# EAGLE library part TPS562201 (library Power > Switching Controllers)
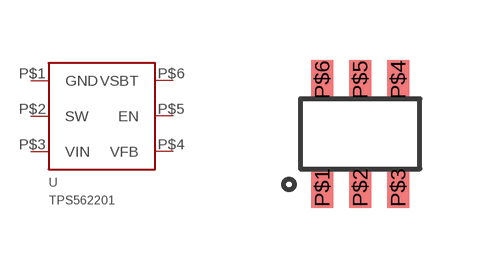
[diagram p3: symbol with the pads of DBV_(R-PDSO-G6); footprint DBV_(R-PDSO-G6)]

Designator prefix U

## TPS562201  [DBV_(R-PDSO-G6)]
P$1  GND
P$2  SW
P$3  VIN
P$4  VFB
P$5  EN
P$6  VSBT

## Footprint DBV_(R-PDSO-G6) (pad centres in mm)
Plastic Small outline package
smd 0.55 x 1: P$1 -0.95,-1.35; P$2 0,-1.35; P$3 0.95,-1.35; P$4 0.95,1.35; P$5 0,1.35; P$6 -0.95,1.35